# Altium footprint library conn_antenn_901-9894-RFX.PcbLib: 1 footprints
Each footprint in its own frame and in the unit in brackets; x right, y up, seen from the top. Pads: shape width x height; smd on the part's side, far side on the other; paste and mask are expansions set on the pad; w line width, h text height; cw(c..) or ccw(c..) is an arc to the next point about the centre after c.
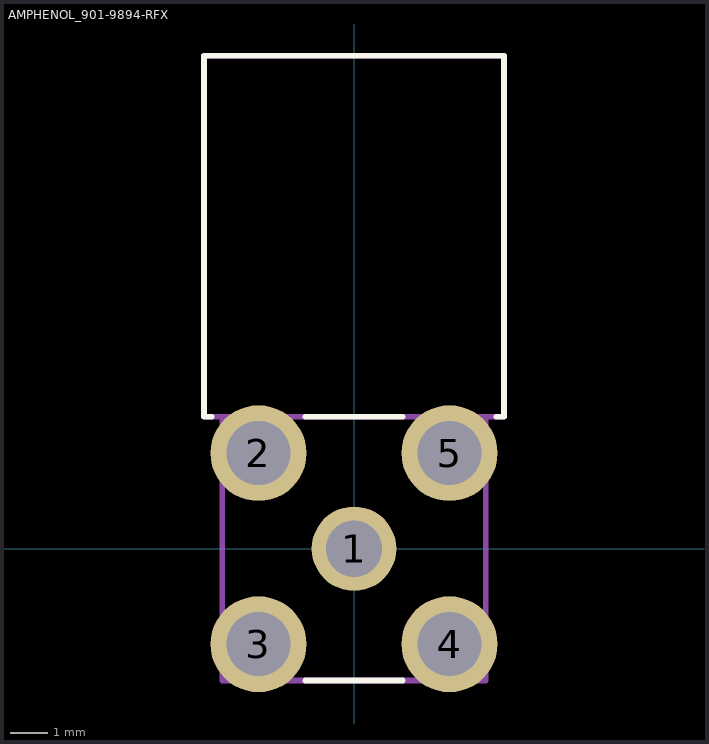
[diagram p0: the footprint, top view; thin cyan lines are the x and y axes]

## AMPHENOL_901-9894-RFX [mil]
pads (5):
  round 88.5 hole 59: 1(0,0)
  round 100.5 hole 67: 2(-100,100) 3(-100,-100) 4(100,-100) 5(100,100)
Top Overlay:
  lines w6: -149,138 -157,138 -157,516 157,516 157,138 149,138 ; -51,-138 51,-138 ; -51,138 51,138
Mechanical 13:
  lines w6: -138,138 -138,-138 138,-138 138,138 ; -138,138 138,138 ; -138,138 -157,138 -157,516 157,516 157,138 138,138
3D body "901-9894-RFX.STEP": height 432.24, standoff -155.12, extent -157.48,-137.8 157.48,515.75